# Altium integrated library Altera Cyclone II.IntLib: 204 symbols (part 38 of 40)
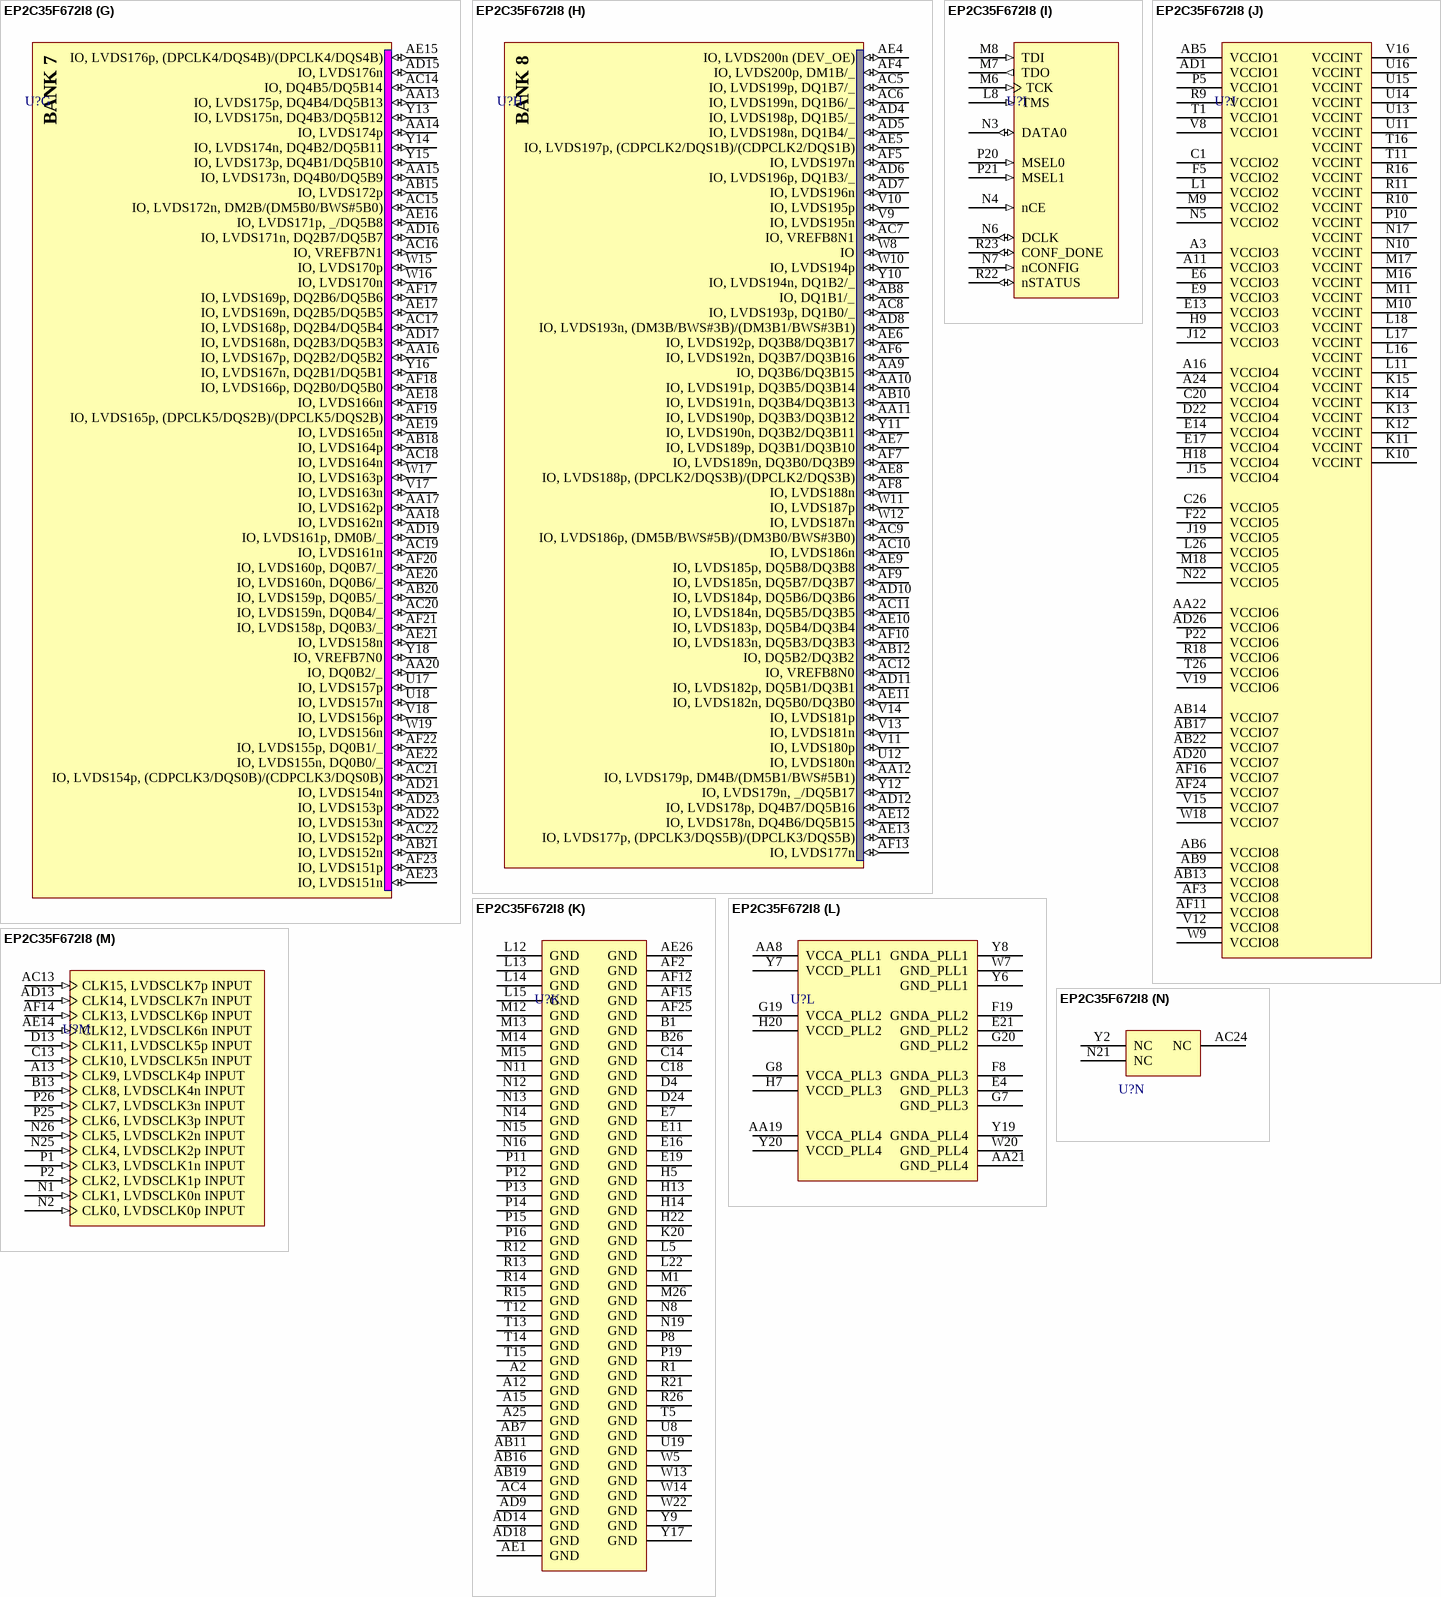
[diagram p360: symbol EP2C35F672I8]

## EP2C35F672I8
designator U?
Cyclone II Family, 1.2V FPGA, 475 I/O Pins, 4 PLLs, 672-Pin FBGA, Speed Grade 8, Industrial Grade; Note: DQS signal pins named according to DQ bus modes.  "/" separates each mode. ie. Modes x8/x9 / Modes x16/x18.; Published: 18-Aug-2005; LatestRevisionDate: 13-Apr-2006; LatestRevisionNote: IPC-7351 Footprint Added.; DatasheetVersion: ver2.3, Mar-2006; PackageVersion: ver14.2, Oct-2005; PackageReference: FBGA672; Publisher: Altium Limited; PackageDescription: 672-Ball FineLine Ball Grid Array (FBGA672) - Flip Chip; Code_JEDEC: MS-034-AAL-1; ComponentLink1Description: Manufacturer Link; ComponentLink1URL: http://www.altera.com/products/devices/cyclone2/cy2-index.jsp; ComponentLink2Description: Handbook; ComponentLink2URL: http://www.altera.com/literature/hb/cyc2/cyc2_cii5v1.pdf; ComponentLink3Description: Packaging Specification; ComponentLink3URL: http://www.altera.com/literature/ds/dspkg.pdf
footprint FBGA672 (BGA, 672-Leads, Body 27x27mm, Pitch 1mm)
3D model EP2C35-FBGA672 (672-Ball FineLine Ball Grid Array (FBGA672) - Flip Chip)
signal-integrity model EP2C35F_672 (Cyclone II)
part A pins: AA1 IO, LVDS9n, (DM3L/BWS#3L)/(DM3L1/BWS#3L1) (io), AA2 IO, LVDS9p, DQ3L8/DQ3L17 (io), AA3 IO, LVDS5n (io), AA4 IO, LVDS5p (io), AA5 IO, LVDS3p (io), AA6 IO, PLL1_OUTn (io), AA7 IO, PLL1_OUTp (io), AB1 IO, LVDS6n (io), AB2 IO, LVDS6p (io), AB3 IO, LVDS0p (io), AB4 IO, LVDS0n (io), AC1 IO, LVDS4n (io), AC2 IO, LVDS4p (io), AC3 IO (io), AD2 IO, LVDS2p (io), AD3 IO, LVDS2n (io), AE2 IO, LVDS1p (io), AE3 IO, LVDS1n (io), P3 IO, LVDS26p, (DPCLK1/DQS1L)/(DPCLK1/DQS1L) (io), P4 IO, LVDS26n (io), P6 IO, LVDS22n, DQ1L4/DQ3L4 (io), P7 IO, LVDS22p, DQ1L3/DQ3L3 (io), R2 IO, LVDS25p, DQ1L0/DQ3L0 (io), R3 IO, LVDS25n, DQ1L1/DQ3L1 (io), R4 IO, LVDS24p, DQ1L2/DQ3L2 (io), R5 IO, LVDS24n (io), R6 IO, LVDS20p, DQ1L7/DQ3L7 (io), R7 IO, LVDS20n, DQ1L8/DQ3L8 (io), R8 IO, LVDS7p (io), T2 IO, LVDS21p, DQ1L5/DQ3L5 (io), T3 IO, LVDS21n, DQ1L6/DQ3L6 (io), T4 IO, VREFB1N0 (io), T6 IO, LVDS15n (io), T7 IO, LVDS15p (io), T8 IO, LVDS7n (io), T9 IO, LVDS23n (io), T10 IO, LVDS23p (io), U1 IO, LVDS19n (io), U2 IO, LVDS19p, (DM1L/BWS#1L)/(DM3L0/BWS#3L0) (io), U3 IO, LVDS17p (io), U4 IO, LVDS17n (io), U5 IO, DQ3L4/DQ3L13 (io), U6 IO, LVDS12p, DQ3L2/DQ3L11 (io), U7 IO, LVDS12n, DQ3L3/DQ3L12 (io), U9 IO, LVDS18p (io), U10 IO, LVDS18n (io), V1 IO, LVDS16p (io), V2 IO, LVDS16n (io), V3 IO, LVDS14n (io), V4 IO, LVDS14p (io), V5 IO, LVDS10p, DQ3L6/DQ3L15 (io), V6 IO, LVDS10n, DQ3L7/DQ3L16 (io), V7 IO (io), W1 IO, LVDS13n, DQ3L1/DQ3L10 (io), W2 IO, LVDS13p, DQ3L0/DQ3L9 (io), W3 IO, LVDS11n (io), W4 IO, LVDS11p, (CDPCLK1/DQS3L)/(CDPCLK1/DQS3L) (io), W6 IO, VREFB1N1 (io), Y1 IO, DQ3L5/DQ3L14 (io), Y3 IO, LVDS8p (io), Y4 IO, LVDS8n (io), Y5 IO, LVDS3n (io)
part B pins: B2 IO, LVDS49p (CRC_ERROR) (io), B3 IO, LVDS49n (CLKUSR) (io), C2 IO, LVDS48p (io), C3 IO, LVDS48n (io), D1 IO, LVDS45n (io), D2 IO, LVDS45p (io), D3 IO, (nCSO) (io), E1 IO, LVDS43n (io), E2 IO, LVDS43p (io), E3 IO, (ASDO) (io), E5 IO, PLL3_OUTp (io), F1 IO, LVDS39n, DQ2L4/DQ1L4 (io), F2 IO, LVDS39p, DQ2L3/DQ1L3 (io), F3 IO, LVDS46p (io), F4 IO, LVDS46n (io), F6 IO, PLL3_OUTn (io), F7 IO (io), G1 IO, LVDS38p, (CDPCLK0/DQS2L)/(CDPCLK0/DQS2L) (io), G2 IO, LVDS38n (io), G3 IO, LVDS41n (io), G4 IO, LVDS41p (io), G5 IO, LVDS47p (io), G6 IO, LVDS47n (io), H1 IO, LVDS35n (io), H2 IO, LVDS35p, DM2L/(DM1L0/BWS#1L0) (io), H3 IO, LVDS37p, DQ2L5/DQ1L5 (io), H4 IO, LVDS37n, DQ2L6/DQ1L6 (io), H6 IO (io), J1 IO, LVDS34n, DQ0L0/DQ1L9 (io), J2 IO, LVDS34p (io), J3 IO, LVDS36p, DQ2L7/DQ1L7 (io), J4 IO, LVDS36n, _/DQ1L8 (io), J5 IO, VREFB2N0 (io), J6 IO, DQ2L0/DQ1L0 (io), J7 IO, LVDS44n (io), J8 IO, LVDS44p (io), K1 IO, LVDS32p, DQ0L3/DQ1L12 (io), K2 IO, LVDS32n, DQ0L4/DQ1L13 (io), K3 IO, LVDS33n, DQ0L2/DQ1L11 (io), K4 IO, LVDS33p, DQ0L1/DQ1L10 (io), K5 IO, LVDS42n (io), K6 IO, LVDS42p (io), K7 IO, LVDS40n, DQ2L2/DQ1L2 (io), K8 IO, LVDS40p, DQ2L1/DQ1L1 (io), L2 IO, LVDS29p, DQ0L7/DQ1L16 (io), L3 IO, LVDS29n, _/DQ1L17 (io), L4 IO, VREFB2N1 (io), L6 IO, LVDS30n, DQ0L6/DQ1L15 (io), L7 IO, LVDS30p, DQ0L5/DQ1L14 (io), L9 IO (io), L10 IO (io), M2 IO, LVDS27n (io), M3 IO, LVDS27p, (DPCLK0/DQS0L)/(DPCLK0/DQS0L) (io), M4 IO, LVDS28p (io), M5 IO, LVDS28n, DM0L/(DM1L1/BWS#1L1) (io), N9 IO, LVDS31p (io), P9 IO, LVDS31n (io)
part C pins: A4 IO, LVDS51p, DM1T/_ (io), A5 IO, LVDS52p, DQ1T6/_ (io), A6 IO, LVDS53n (io), A7 IO, LVDS58n, DQ3T7/DQ3T16 (io), A8 IO, LVDS62n (io), A9 IO, LVDS65n, DQ5T8/DQ3T8 (io), A10 IO, LVDS67n, DQ5T4/DQ3T4 (io), B4 IO, LVDS51n, DQ1T7/_ (io), B5 IO, LVDS52n, DQ1T5/_ (io), B6 IO, LVDS53p, (CDPCLK7/DQS1T)/(CDPCLK7/DQS1T) (io), B7 IO, LVDS58p, DQ3T8/DQ3T17 (io), B8 IO, LVDS62p, (DPCLK11/DQS3T)/(DPCLK11/DQS3T) (io), B9 IO, LVDS65p, (DM5T/BWS#5T)/(DM3T0/BWS#3T0) (io), B10 IO, LVDS67p, DQ5T5/DQ3T5 (io), B11 IO, LVDS72n, DQ4T7/DQ5T16 (io), B12 IO, LVDS73n (io), C4 IO, LVDS54p, DQ1T4/_ (io), C5 IO, LVDS50n (DEV_CLRn) (io), C6 IO, LVDS50p (io), C7 IO, LVDS57n, DQ1T0/_ (io), C8 IO, LVDS59n, DQ3T5/DQ3T14 (io), C9 IO, LVDS61n, DQ3T1/DQ3T10 (io), C10 IO, LVDS66p, DQ5T7/DQ3T7 (io), C11 IO, LVDS72p, _/DQ5T17 (io), C12 IO, LVDS73p, (DPCLK10/DQS5T)/(DPCLK10/DQS5T) (io), D5 IO, LVDS54n (io), D6 IO, (DM3T/BWS#3T)/(DM3T1/BWS#3T1) (io), D7 IO, LVDS57p, DQ1T1/_ (io), D8 IO, LVDS59p, DQ3T6/DQ3T15 (io), D9 IO, LVDS61p, DQ3T2/DQ3T11 (io), D10 IO, LVDS66n, DQ5T6/DQ3T6 (io), D11 IO, VREFB3N0 (io), D12 IO, LVDS68n, DQ5T1/DQ3T1 (io), E8 IO, VREFB3N1 (io), E10 IO, LVDS64n (io), E12 IO, LVDS68p, DQ5T2/DQ3T2 (io), F9 IO, DQ1T2/_ (io), F10 IO, LVDS60p, DQ3T4/DQ3T13 (io), F11 IO, LVDS64p, DQ3T0/DQ3T9 (io), F12 IO, LVDS70p, DQ5T0/DQ3T0 (io), G9 IO, LVDS56n, DQ1T3/_ (io), G10 IO, LVDS60n, DQ3T3/DQ3T12 (io), G11 IO, DQ5T3/DQ3T3 (io), G12 IO, LVDS70n, DM4T/(DM5T1/BWS#5T1) (io), H8 IO (io), H10 IO, LVDS56p (io), H11 IO, LVDS63p (io), H12 IO, LVDS63n (io), J9 IO, LVDS55n (io), J10 IO, LVDS71p (io), J11 IO, LVDS71n (io), J13 IO, LVDS69p (io), J14 IO, LVDS69n (io), K9 IO, LVDS55p (io)
part D pins: A14 IO, LVDS74n (io), A17 IO, LVDS81p, DQ2T6/DQ5T6 (io), A18 IO, LVDS84p, DQ2T0/DQ5T0 (io), A19 IO, LVDS90p, DQ0T7/_ (io), A20 IO, LVDS92p, DQ0T3/_ (io), A21 IO, LVDS95p, DQ0T1/_ (io), A22 IO, LVDS96n (io), A23 IO, LVDS97p (io), B14 IO, LVDS74p, (DPCLK9/DQS4T)/(DPCLK9/DQS4T) (io), B15 IO, LVDS77n, DQ4T1/DQ5T10 (io), B16 IO, LVDS78p, DQ4T0/DQ5T9 (io), B17 IO, LVDS81n, DQ2T5/DQ5T5 (io), B18 IO, LVDS84n (io), B19 IO, LVDS90n, DQ0T6/_ (io), B20 IO, LVDS92n (io), B21 IO, LVDS95n, DQ0T0/_ (io), B22 IO, LVDS96p, (CDPCLK6/DQS0T)/(CDPCLK6/DQS0T) (io), B23 IO, LVDS97n (io), C15 IO, LVDS77p, DQ4T2/DQ5T11 (io), C16 IO, LVDS78n, DM2T/(DM5T0/BWS#5T0) (io), C17 IO, LVDS85p, (DPCLK8/DQS2T)/(DPCLK8/DQS2T) (io), C19 IO, LVDS91n, DQ0T4/_ (io), C21 IO, LVDS98n (io), C22 IO, LVDS99p (io), C23 IO, LVDS99n (io), D14 IO, DQ4T6/DQ5T15 (io), D15 IO, LVDS79p, _/DQ5T8 (io), D16 IO, VREFB4N1 (io), D17 IO, LVDS85n (io), D18 IO, LVDS89p, DM0T/_ (io), D19 IO, LVDS91p, DQ0T5/_ (io), D20 IO, DQ0T2/_ (io), D21 IO, LVDS98p (io), E15 IO, LVDS79n, DQ2T7/DQ5T7 (io), E18 IO, LVDS89n (io), E20 IO, VREFB4N0 (io), F13 IO, LVDS76p (io), F14 IO, LVDS75p, DQ4T5/DQ5T14 (io), F15 IO, LVDS82n, DQ2T3/DQ5T3 (io), F16 IO, LVDS83p, DQ2T2/DQ5T2 (io), F17 IO, LVDS86n (io), F18 IO, LVDS88p (io), G13 IO, LVDS76n, DQ4T3/DQ5T12 (io), G14 IO, LVDS75n, DQ4T4/DQ5T13 (io), G15 IO, LVDS82p, DQ2T4/DQ5T4 (io), G16 IO, LVDS83n, DQ2T1/DQ5T1 (io), G17 IO, LVDS86p (io), G18 IO, LVDS88n (io), H15 IO, LVDS80p (io), H16 IO, LVDS80n (io), H17 IO, LVDS87p (io), J16 IO, LVDS93n (io), J17 IO, LVDS87n (io), J18 IO, LVDS94n (io), K16 IO, LVDS93p (io), K17 IO, LVDS94p (io)
part E pins: B24 IO, LVDS103p (io), B25 IO, LVDS103n (io), C24 IO, LVDS104n (io), C25 IO, LVDS104p (io), D23 IO, LVDS100n (io), D25 IO, LVDS105n (io), D26 IO, LVDS105p (io), E22 IO, LVDS100p (io), E23 IO, LVDS102p (io), E24 IO, LVDS102n (io), E25 IO, LVDS106n (io), E26 IO, LVDS106p (io), F20 IO, PLL2_OUTn (io), F21 IO, PLL2_OUTp (io), F23 IO, LVDS107n (io), F24 IO, LVDS107p (io), F25 IO, LVDS109p (io), F26 IO, LVDS109n (io), G21 IO, LVDS101p (io), G22 IO, LVDS101n (io), G23 IO, LVDS111p (io), G24 IO, LVDS111n (io), G25 IO, LVDS112p, (CDPCLK5/DQS2R)/(CDPCLK5/DQS2R) (io), G26 IO, LVDS112n (io), H19 IO (io), H21 IO (io), H23 IO, LVDS113p, DQ2R0/DQ1R0 (io), H24 IO, LVDS113n, DQ2R1/DQ1R1 (io), H25 IO, LVDS115p, DQ2R4/DQ1R4 (io), H26 IO, LVDS115n, DQ2R5/DQ1R5 (io), J20 IO, LVDS108n (io), J21 IO, LVDS108p (io), J22 IO, VREFB5N0 (io), J23 IO, LVDS114p, DQ2R2/DQ1R2 (io), J24 IO, LVDS114n, DQ2R3/DQ1R3 (io), J25 IO, LVDS119p (io), J26 IO, LVDS119n (io), K18 IO, LVDS116p (io), K19 IO, LVDS116n, DQ2R6/DQ1R6 (io), K21 IO, DQ2R7/DQ1R7 (io), K22 IO (io), K23 IO, LVDS117p, _/DQ1R8 (io), K24 IO, LVDS117n, DM2R/(DM1R0/BWS#1R0) (io), K25 IO, LVDS121p, DQ0R1/DQ1R10 (io), K26 IO, LVDS121n, DQ0R2/DQ1R11 (io), L19 IO, DQ0R0/DQ1R9 (io), L20 IO, LVDS118n (io), L21 IO, LVDS118p (io), L23 IO, VREFB5N1 (io), L24 IO, LVDS120p (io), L25 IO, LVDS120n (io), M19 IO, LVDS123p, DQ0R5/DQ1R14 (io), M20 IO, LVDS123n, DQ0R6/DQ1R15 (io), M21 IO, LVDS124n (io), M22 IO, LVDS122p, DQ0R3/DQ1R12 (io), M23 IO, LVDS122n, DQ0R4/DQ1R13 (io), M24 IO, LVDS125p, _/DQ1R17 (io), M25 IO, LVDS125n, DM0R/(DM1R1/BWS#1R1) (io), N18 IO, LVDS110p (io), N20 IO, LVDS124p, DQ0R7/DQ1R16 (io), N23 IO, LVDS126p, (DPCLK7/DQS0R)/(DPCLK7/DQS0R) (io), N24 IO, LVDS126n (io), P18 IO, LVDS110n (io)
part F pins: AA23 IO, LVDS147p (io), AA24 IO, LVDS147n (io), AA25 IO, LVDS142n (io), AA26 IO, LVDS142p (io), AB23 IO, LVDS146p (io), AB24 IO, LVDS146n (io), AB25 IO, LVDS144p (io), AB26 IO, LVDS144n (io), AC23 IO (io), AC25 IO, LVDS145n (io), AC26 IO, LVDS145p (io), AD24 IO, LVDS149p (io), AD25 IO, LVDS149n (io), AE24 IO, LVDS150p (nCEO) (io), AE25 IO, LVDS150n (INIT_DONE) (io), P17 IO, LVDS130n (io), P23 IO, LVDS127p, (DPCLK6/DQS1R)/(DPCLK6/DQS1R) (io), P24 IO, LVDS127n (io), R17 IO, LVDS130p (io), R19 IO, LVDS135p (io), R20 IO, DQ1R2/DQ3R2 (io), R24 IO, LVDS128n, DQ1R1/DQ3R1 (io), R25 IO, LVDS128p, DQ1R0/DQ3R0 (io), T17 IO, LVDS132n (io), T18 IO, LVDS132p (io), T19 IO, LVDS135n (io), T20 IO, DQ1R6/DQ3R6 (io), T21 IO, VREFB6N0 (io), T22 IO, LVDS129p, DQ1R3/DQ3R3 (io), T23 IO, LVDS129n (io), T24 IO, LVDS131p, DQ1R4/DQ3R4 (io), T25 IO, LVDS131n, DQ1R5/DQ3R5 (io), U20 IO, LVDS136p (io), U21 IO, LVDS136n, DQ3R0/DQ3R9 (io), U22 IO, DQ3R7/DQ3R16 (io), U23 IO, LVDS134p, (DM1R/BWS#1R)/(DM3R0/BWS#3R0) (io), U24 IO, LVDS134n (io), U25 IO, LVDS133n, DQ1R8/DQ3R8 (io), U26 IO, LVDS133p, DQ1R7/DQ3R7 (io), V20 IO, PLL4_OUTn (io), V21 IO, PLL4_OUTp (io), V22 IO, VREFB6N1 (io), V23 IO, LVDS138n, DQ3R4/DQ3R13 (io), V24 IO, LVDS138p, DQ3R3/DQ3R12 (io), V25 IO, LVDS137n, DQ3R2/DQ3R11 (io), V26 IO, LVDS137p, DQ3R1/DQ3R10 (io), W21 IO, LVDS148n (io), W23 IO, LVDS140p, DQ3R5/DQ3R14 (io), W24 IO, LVDS140n, DQ3R6/DQ3R15 (io), W25 IO, LVDS139n (io), W26 IO, LVDS139p, (CDPCLK4/DQS3R)/(CDPCLK4/DQS3R) (io), Y21 IO (io), Y22 IO, LVDS148p (io), Y23 IO, LVDS143p (io), Y24 IO, LVDS143n (io), Y25 IO, LVDS141p, DQ3R8/DQ3R17 (io), Y26 IO, LVDS141n, (DM3R/BWS#3R)/(DM3R1/BWS#3R1) (io)
part G pins: AA13 IO, LVDS175p, DQ4B4/DQ5B13 (io), AA14 IO, LVDS174p (io), AA15 IO, LVDS173n, DQ4B0/DQ5B9 (io), AA16 IO, LVDS167p, DQ2B2/DQ5B2 (io), AA17 IO, LVDS162p (io), AA18 IO, LVDS162n (io), AA20 IO, DQ0B2/_ (io), AB15 IO, LVDS172p (io), AB18 IO, LVDS164p (io), AB20 IO, LVDS159p, DQ0B5/_ (io), AB21 IO, LVDS152n (io), AC14 IO, DQ4B5/DQ5B14 (io), AC15 IO, LVDS172n, DM2B/(DM5B0/BWS#5B0) (io), AC16 IO, VREFB7N1 (io), AC17 IO, LVDS168p, DQ2B4/DQ5B4 (io), AC18 IO, LVDS164n (io), AC19 IO, LVDS161n (io), AC20 IO, LVDS159n, DQ0B4/_ (io), AC21 IO, LVDS154p, (CDPCLK3/DQS0B)/(CDPCLK3/DQS0B) (io), AC22 IO, LVDS152p (io), AD15 IO, LVDS176n (io), AD16 IO, LVDS171n, DQ2B7/DQ5B7 (io), AD17 IO, LVDS168n, DQ2B3/DQ5B3 (io), AD19 IO, LVDS161p, DM0B/_ (io), AD21 IO, LVDS154n (io), AD22 IO, LVDS153n (io), AD23 IO, LVDS153p (io), AE15 IO, LVDS176p, (DPCLK4/DQS4B)/(DPCLK4/DQS4B) (io), AE16 IO, LVDS171p, _/DQ5B8 (io), AE17 IO, LVDS169n, DQ2B5/DQ5B5 (io), AE18 IO, LVDS166n (io), AE19 IO, LVDS165n (io), AE20 IO, LVDS160n, DQ0B6/_ (io), AE21 IO, LVDS158n (io), AE22 IO, LVDS155n, DQ0B0/_ (io), AE23 IO, LVDS151n (io), AF17 IO, LVDS169p, DQ2B6/DQ5B6 (io), AF18 IO, LVDS166p, DQ2B0/DQ5B0 (io), AF19 IO, LVDS165p, (DPCLK5/DQS2B)/(DPCLK5/DQS2B) (io), AF20 IO, LVDS160p, DQ0B7/_ (io), AF21 IO, LVDS158p, DQ0B3/_ (io), AF22 IO, LVDS155p, DQ0B1/_ (io), AF23 IO, LVDS151p (io), U17 IO, LVDS157p (io), U18 IO, LVDS157n (io), V17 IO, LVDS163n (io), V18 IO, LVDS156p (io), W15 IO, LVDS170p (io), W16 IO, LVDS170n (io), W17 IO, LVDS163p (io), W19 IO, LVDS156n (io), Y13 IO, LVDS175n, DQ4B3/DQ5B12 (io), Y14 IO, LVDS174n, DQ4B2/DQ5B11 (io), Y15 IO, LVDS173p, DQ4B1/DQ5B10 (io), Y16 IO, LVDS167n, DQ2B1/DQ5B1 (io), Y18 IO, VREFB7N0 (io)
part H pins: AA9 IO, DQ3B6/DQ3B15 (io), AA10 IO, LVDS191p, DQ3B5/DQ3B14 (io), AA11 IO, LVDS190p, DQ3B3/DQ3B12 (io), AA12 IO, LVDS179p, DM4B/(DM5B1/BWS#5B1) (io), AB8 IO, DQ1B1/_ (io), AB10 IO, LVDS191n, DQ3B4/DQ3B13 (io), AB12 IO, DQ5B2/DQ3B2 (io), AC5 IO, LVDS199p, DQ1B7/_ (io), AC6 IO, LVDS199n, DQ1B6/_ (io), AC7 IO, VREFB8N1 (io), AC8 IO, LVDS193p, DQ1B0/_ (io), AC9 IO, LVDS186p, (DM5B/BWS#5B)/(DM3B0/BWS#3B0) (io), AC10 IO, LVDS186n (io), AC11 IO, LVDS184n, DQ5B5/DQ3B5 (io), AC12 IO, VREFB8N0 (io), AD4 IO, LVDS198p, DQ1B5/_ (io), AD5 IO, LVDS198n, DQ1B4/_ (io), AD6 IO, LVDS196p, DQ1B3/_ (io), AD7 IO, LVDS196n (io), AD8 IO, LVDS193n, (DM3B/BWS#3B)/(DM3B1/BWS#3B1) (io), AD10 IO, LVDS184p, DQ5B6/DQ3B6 (io), AD11 IO, LVDS182p, DQ5B1/DQ3B1 (io), AD12 IO, LVDS178p, DQ4B7/DQ5B16 (io), AE4 IO, LVDS200n (DEV_OE) (io), AE5 IO, LVDS197p, (CDPCLK2/DQS1B)/(CDPCLK2/DQS1B) (io), AE6 IO, LVDS192p, DQ3B8/DQ3B17 (io), AE7 IO, LVDS189p, DQ3B1/DQ3B10 (io), AE8 IO, LVDS188p, (DPCLK2/DQS3B)/(DPCLK2/DQS3B) (io), AE9 IO, LVDS185p, DQ5B8/DQ3B8 (io), AE10 IO, LVDS183p, DQ5B4/DQ3B4 (io), AE11 IO, LVDS182n, DQ5B0/DQ3B0 (io), AE12 IO, LVDS178n, DQ4B6/DQ5B15 (io), AE13 IO, LVDS177p, (DPCLK3/DQS5B)/(DPCLK3/DQS5B) (io), AF4 IO, LVDS200p, DM1B/_ (io), AF5 IO, LVDS197n (io), AF6 IO, LVDS192n, DQ3B7/DQ3B16 (io), AF7 IO, LVDS189n, DQ3B0/DQ3B9 (io), AF8 IO, LVDS188n (io), AF9 IO, LVDS185n, DQ5B7/DQ3B7 (io), AF10 IO, LVDS183n, DQ5B3/DQ3B3 (io), AF13 IO, LVDS177n (io), U12 IO, LVDS180n (io), V9 IO, LVDS195n (io), V10 IO, LVDS195p (io), V11 IO, LVDS180p (io), V13 IO, LVDS181n (io), V14 IO, LVDS181p (io), W8 IO (io), W10 IO, LVDS194p (io), W11 IO, LVDS187p (io), W12 IO, LVDS187n (io), Y10 IO, LVDS194n, DQ1B2/_ (io), Y11 IO, LVDS190n, DQ3B2/DQ3B11 (io), Y12 IO, LVDS179n, _/DQ5B17 (io)
part I pins: L8 TMS (in), M6 TCK (in), M7 TDO (out), M8 TDI (in), N3 DATA0 (io), N4 nCE (in), N6 DCLK (io), N7 nCONFIG (in), P20 MSEL0 (in), P21 MSEL1 (in), R22 nSTATUS (io), R23 CONF_DONE (io)
part J pins: A3 VCCIO3 (power), A11 VCCIO3 (power), A16 VCCIO4 (power), A24 VCCIO4 (power), AA22 VCCIO6 (power), AB5 VCCIO1 (power), AB6 VCCIO8 (power), AB9 VCCIO8 (power), AB13 VCCIO8 (power), AB14 VCCIO7 (power), AB17 VCCIO7 (power), AB22 VCCIO7 (power), AD1 VCCIO1 (power), AD20 VCCIO7 (power), AD26 VCCIO6 (power), AF3 VCCIO8 (power), AF11 VCCIO8 (power), AF16 VCCIO7 (power), AF24 VCCIO7 (power), C1 VCCIO2 (power), C20 VCCIO4 (power), C26 VCCIO5 (power), D22 VCCIO4 (power), E6 VCCIO3 (power), E9 VCCIO3 (power), E13 VCCIO3 (power), E14 VCCIO4 (power), E17 VCCIO4 (power), F5 VCCIO2 (power), F22 VCCIO5 (power), H9 VCCIO3 (power), H18 VCCIO4 (power), J12 VCCIO3 (power), J15 VCCIO4 (power), J19 VCCIO5 (power), K10 VCCINT (power), K11 VCCINT (power), K12 VCCINT (power), K13 VCCINT (power), K14 VCCINT (power), K15 VCCINT (power), L1 VCCIO2 (power), L11 VCCINT (power), L16 VCCINT (power), L17 VCCINT (power), L18 VCCINT (power), L26 VCCIO5 (power), M9 VCCIO2 (power), M10 VCCINT (power), M11 VCCINT (power), M16 VCCINT (power), M17 VCCINT (power), M18 VCCIO5 (power), N5 VCCIO2 (power), N10 VCCINT (power), N17 VCCINT (power), N22 VCCIO5 (power), P5 VCCIO1 (power), P10 VCCINT (power), P22 VCCIO6 (power), R9 VCCIO1 (power), R10 VCCINT (power), R11 VCCINT (power), R16 VCCINT (power), R18 VCCIO6 (power), T1 VCCIO1 (power), T11 VCCINT (power), T16 VCCINT (power), T26 VCCIO6 (power), U11 VCCINT (power), U13 VCCINT (power), U14 VCCINT (power), U15 VCCINT (power), U16 VCCINT (power), V8 VCCIO1 (power), V12 VCCIO8 (power), V15 VCCIO7 (power), V16 VCCINT (power), V19 VCCIO6 (power), W9 VCCIO8 (power), W18 VCCIO7 (power)
part K pins: A2 GND (power), A12 GND (power), A15 GND (power), A25 GND (power), AB7 GND (power), AB11 GND (power), AB16 GND (power), AB19 GND (power), AC4 GND (power), AD9 GND (power), AD14 GND (power), AD18 GND (power), AE1 GND (power), AE26 GND (power), AF2 GND (power), AF12 GND (power), AF15 GND (power), AF25 GND (power), B1 GND (power), B26 GND (power), C14 GND (power), C18 GND (power), D4 GND (power), D24 GND (power), E7 GND (power), E11 GND (power), E16 GND (power), E19 GND (power), H5 GND (power), H13 GND (power), H14 GND (power), H22 GND (power), K20 GND (power), L5 GND (power), L12 GND (power), L13 GND (power), L14 GND (power), L15 GND (power), L22 GND (power), M1 GND (power), M12 GND (power), M13 GND (power), M14 GND (power), M15 GND (power), M26 GND (power), N8 GND (power), N11 GND (power), N12 GND (power), N13 GND (power), N14 GND (power), N15 GND (power), N16 GND (power), N19 GND (power), P8 GND (power), P11 GND (power), P12 GND (power), P13 GND (power), P14 GND (power), P15 GND (power), P16 GND (power), P19 GND (power), R1 GND (power), R12 GND (power), R13 GND (power), R14 GND (power), R15 GND (power), R21 GND (power), R26 GND (power), T5 GND (power), T12 GND (power), T13 GND (power), T14 GND (power), T15 GND (power), U8 GND (power), U19 GND (power), W5 GND (power), W13 GND (power), W14 GND (power), W22 GND (power), Y9 GND (power), Y17 GND (power)
part L pins: AA8 VCCA_PLL1 (power), AA19 VCCA_PLL4 (power), AA21 GND_PLL4 (power), E4 GND_PLL3 (power), E21 GND_PLL2 (power), F8 GNDA_PLL3 (power), F19 GNDA_PLL2 (power), G7 GND_PLL3 (power), G8 VCCA_PLL3 (power), G19 VCCA_PLL2 (power), G20 GND_PLL2 (power), H7 VCCD_PLL3 (power), H20 VCCD_PLL2 (power), W7 GND_PLL1 (power), W20 GND_PLL4 (power), Y6 GND_PLL1 (power), Y7 VCCD_PLL1 (power), Y8 GNDA_PLL1 (power), Y19 GNDA_PLL4 (power), Y20 VCCD_PLL4 (power)
part M pins: A13 CLK9, LVDSCLK4p INPUT (in), AC13 CLK15, LVDSCLK7p INPUT (in), AD13 CLK14, LVDSCLK7n INPUT (in), AE14 CLK12, LVDSCLK6n INPUT (in), AF14 CLK13, LVDSCLK6p INPUT (in), B13 CLK8, LVDSCLK4n INPUT (in), C13 CLK10, LVDSCLK5n INPUT (in), D13 CLK11, LVDSCLK5p INPUT (in), N1 CLK1, LVDSCLK0n INPUT (in), N2 CLK0, LVDSCLK0p INPUT (in), N25 CLK4, LVDSCLK2p INPUT (in), N26 CLK5, LVDSCLK2n INPUT (in), P1 CLK3, LVDSCLK1n INPUT (in), P2 CLK2, LVDSCLK1p INPUT (in), P25 CLK6, LVDSCLK3p INPUT (in), P26 CLK7, LVDSCLK3n INPUT (in)
part N pins: AC24 NC, N21 NC, Y2 NC
part A text: BANK 1
part B text: BANK 2
part C text: BANK 3
part D text: BANK 4
part E text: BANK 5
part F text: BANK 6
part G text: BANK 7
part H text: BANK 8

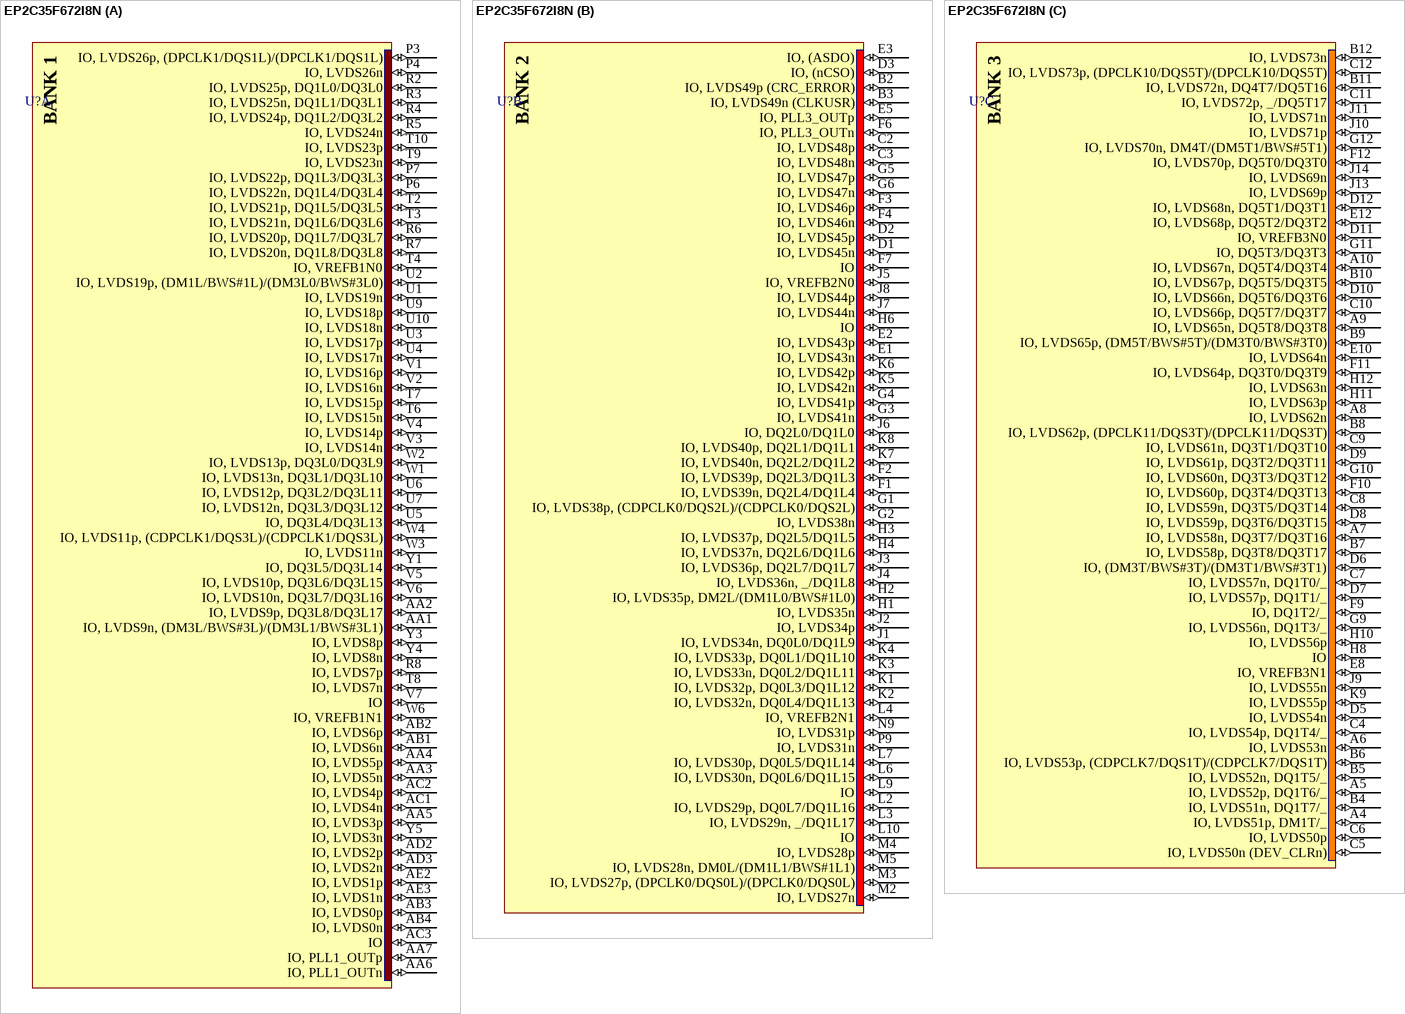
[diagram p156: symbol EP2C35F672I8N]

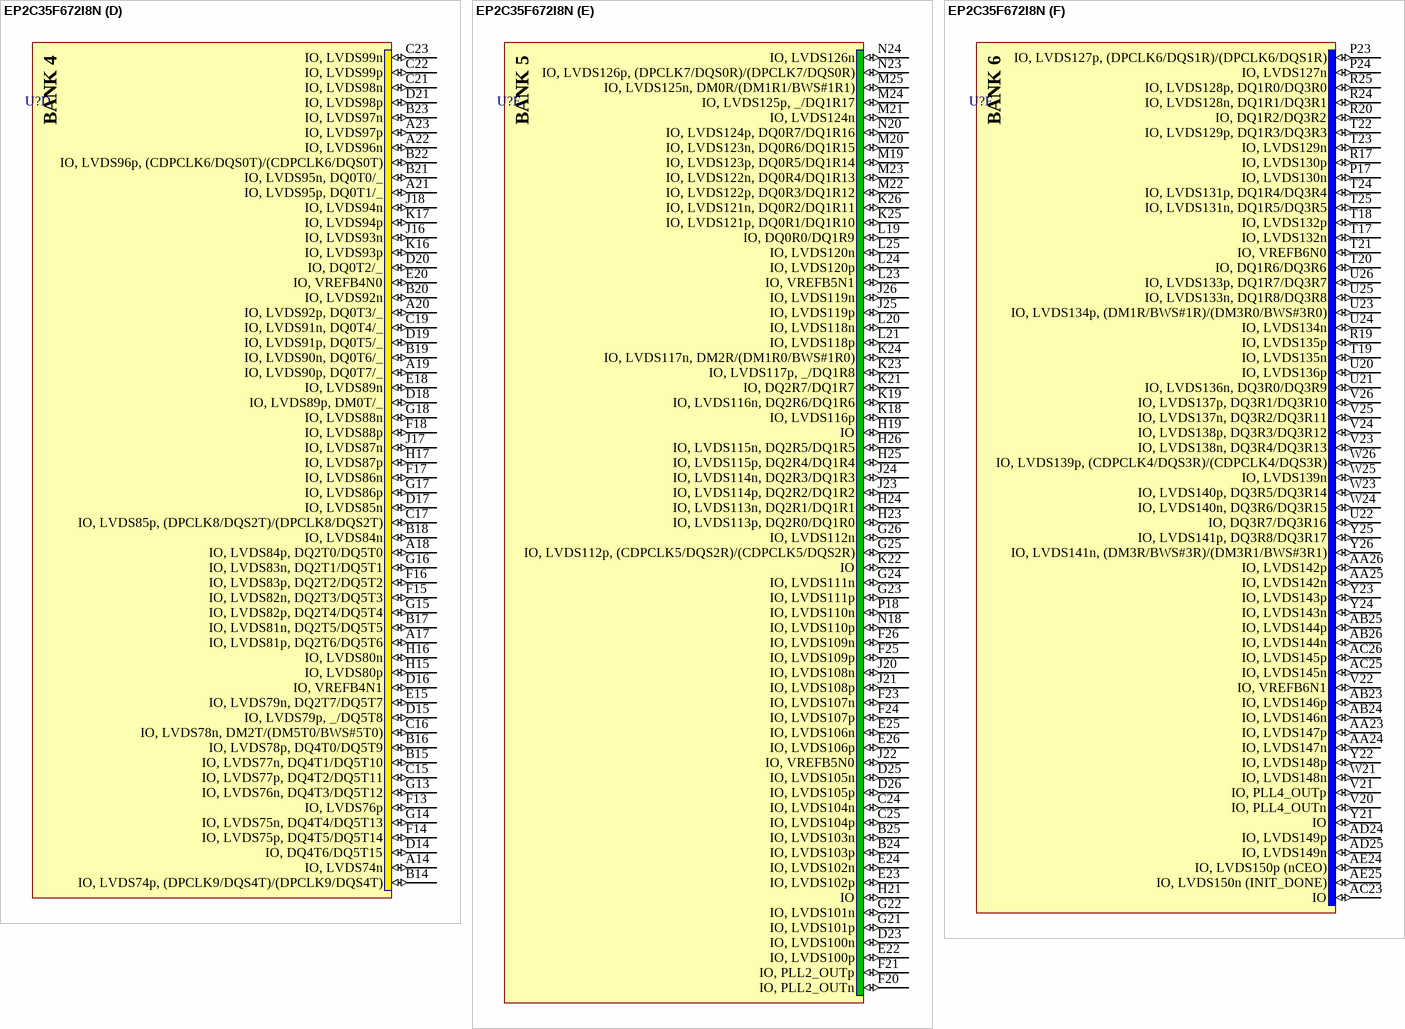
[diagram p157: symbol EP2C35F672I8N]

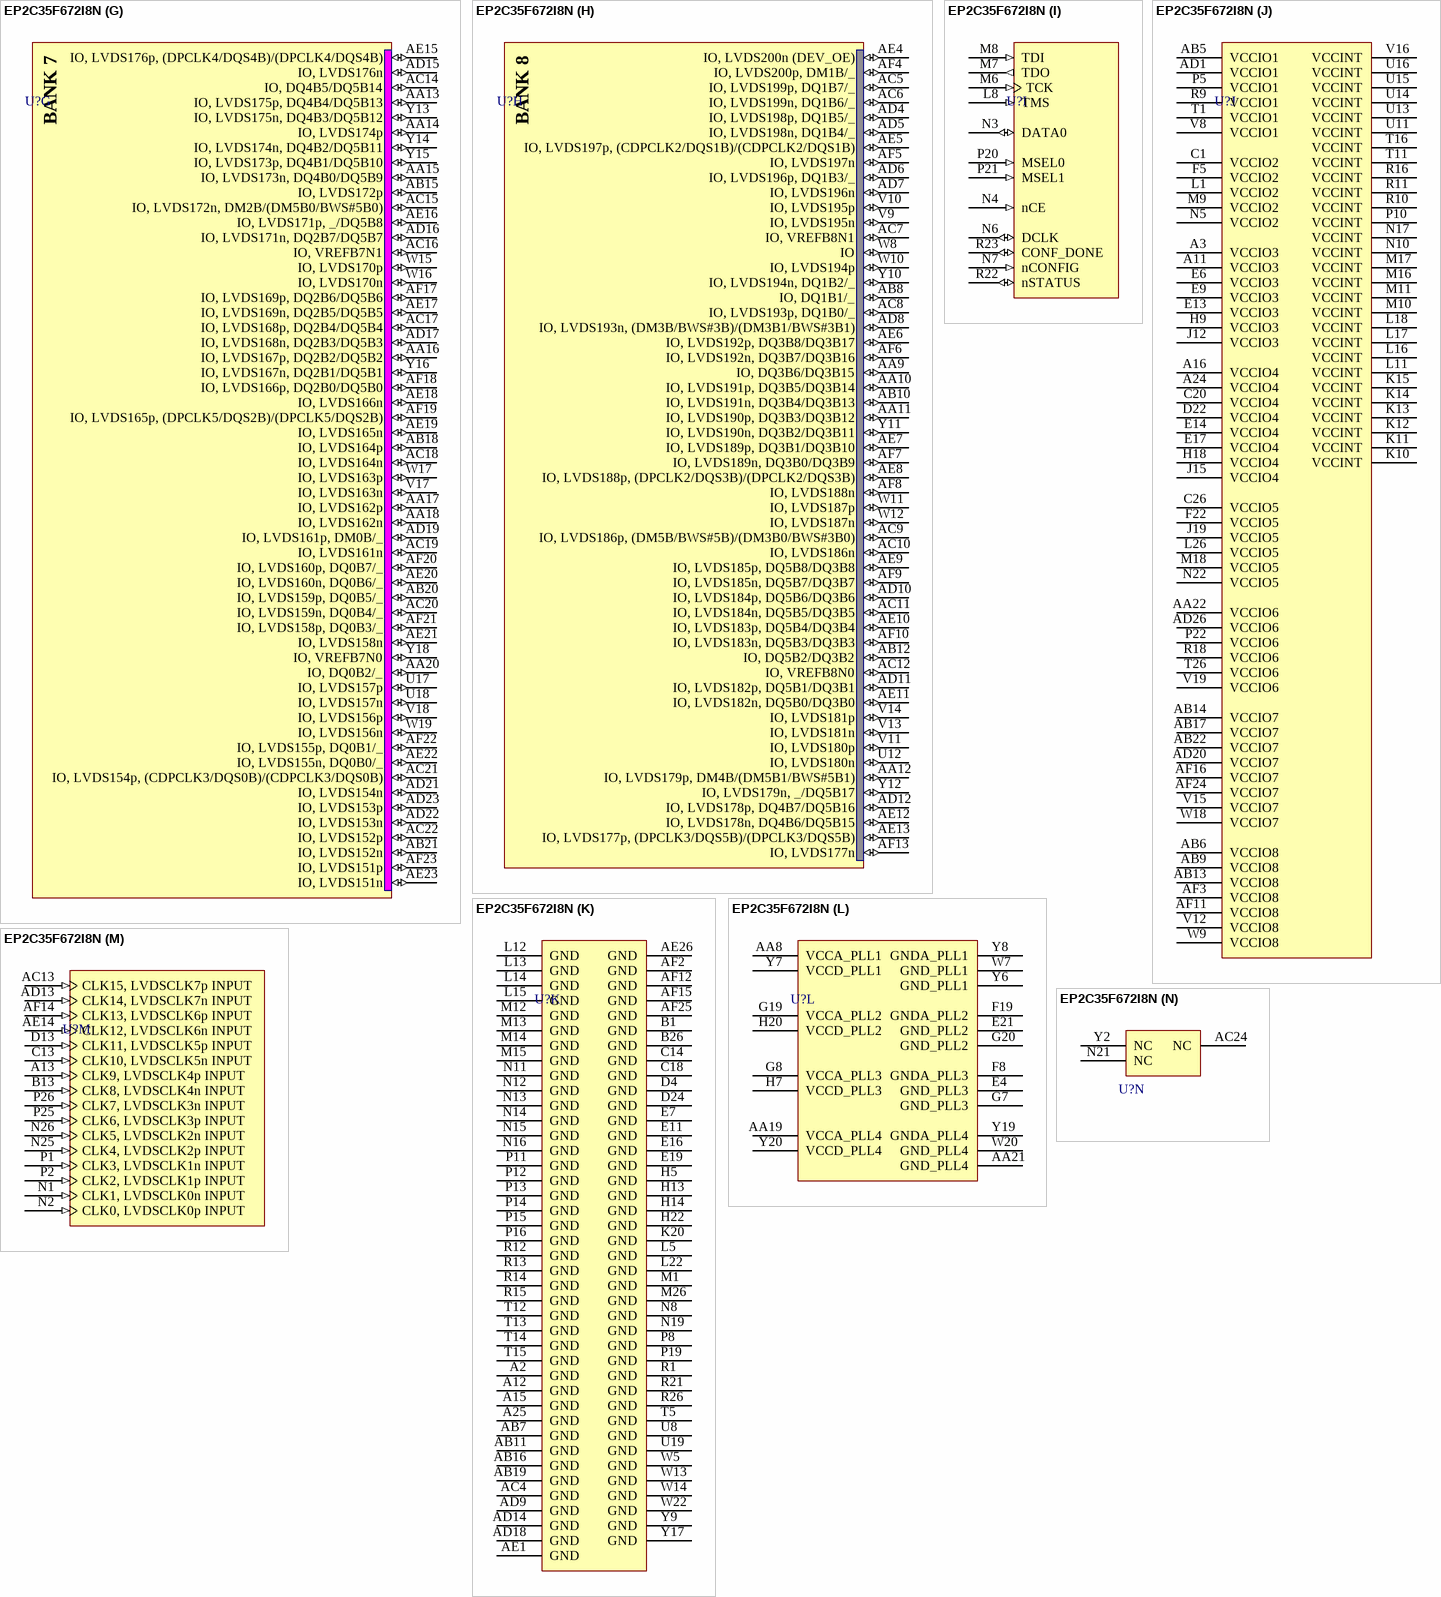
[diagram p158: symbol EP2C35F672I8N]

## EP2C35F672I8N
designator U?
Cyclone II Family, 1.2V FPGA, 475 I/O Pins, 4 PLLs, 672-Pin FBGA, Speed Grade 8, Industrial Grade, Pb-Free; Note: DQS signal pins named according to DQ bus modes.  "/" separates each mode. ie. Modes x8/x9 / Modes x16/x18.; Published: 18-Aug-2005; LatestRevisionDate: 13-Apr-2006; LatestRevisionNote: IPC-7351 Footprint Added.; DatasheetVersion: ver2.3, Mar-2006; PackageVersion: ver14.2, Oct-2005; PackageReference: FBGA672; Publisher: Altium Limited; PackageDescription: 672-Ball FineLine Ball Grid Array (FBGA672) - Flip Chip; Code_JEDEC: MS-034-AAL-1; ComponentLink1Description: Manufacturer Link; ComponentLink1URL: http://www.altera.com/products/devices/cyclone2/cy2-index.jsp; ComponentLink2Description: Handbook; ComponentLink2URL: http://www.altera.com/literature/hb/cyc2/cyc2_cii5v1.pdf; ComponentLink3Description: Packaging Specification; ComponentLink3URL: http://www.altera.com/literature/ds/dspkg.pdf
footprint FBGA672 (BGA, 672-Leads, Body 27x27mm, Pitch 1mm)
3D model EP2C35-FBGA672 (672-Ball FineLine Ball Grid Array (FBGA672) - Flip Chip)
signal-integrity model EP2C35F_672 (Cyclone II)
part A pins: AA1 IO, LVDS9n, (DM3L/BWS#3L)/(DM3L1/BWS#3L1) (io), AA2 IO, LVDS9p, DQ3L8/DQ3L17 (io), AA3 IO, LVDS5n (io), AA4 IO, LVDS5p (io), AA5 IO, LVDS3p (io), AA6 IO, PLL1_OUTn (io), AA7 IO, PLL1_OUTp (io), AB1 IO, LVDS6n (io), AB2 IO, LVDS6p (io), AB3 IO, LVDS0p (io), AB4 IO, LVDS0n (io), AC1 IO, LVDS4n (io), AC2 IO, LVDS4p (io), AC3 IO (io), AD2 IO, LVDS2p (io), AD3 IO, LVDS2n (io), AE2 IO, LVDS1p (io), AE3 IO, LVDS1n (io), P3 IO, LVDS26p, (DPCLK1/DQS1L)/(DPCLK1/DQS1L) (io), P4 IO, LVDS26n (io), P6 IO, LVDS22n, DQ1L4/DQ3L4 (io), P7 IO, LVDS22p, DQ1L3/DQ3L3 (io), R2 IO, LVDS25p, DQ1L0/DQ3L0 (io), R3 IO, LVDS25n, DQ1L1/DQ3L1 (io), R4 IO, LVDS24p, DQ1L2/DQ3L2 (io), R5 IO, LVDS24n (io), R6 IO, LVDS20p, DQ1L7/DQ3L7 (io), R7 IO, LVDS20n, DQ1L8/DQ3L8 (io), R8 IO, LVDS7p (io), T2 IO, LVDS21p, DQ1L5/DQ3L5 (io), T3 IO, LVDS21n, DQ1L6/DQ3L6 (io), T4 IO, VREFB1N0 (io), T6 IO, LVDS15n (io), T7 IO, LVDS15p (io), T8 IO, LVDS7n (io), T9 IO, LVDS23n (io), T10 IO, LVDS23p (io), U1 IO, LVDS19n (io), U2 IO, LVDS19p, (DM1L/BWS#1L)/(DM3L0/BWS#3L0) (io), U3 IO, LVDS17p (io), U4 IO, LVDS17n (io), U5 IO, DQ3L4/DQ3L13 (io), U6 IO, LVDS12p, DQ3L2/DQ3L11 (io), U7 IO, LVDS12n, DQ3L3/DQ3L12 (io), U9 IO, LVDS18p (io), U10 IO, LVDS18n (io), V1 IO, LVDS16p (io), V2 IO, LVDS16n (io), V3 IO, LVDS14n (io), V4 IO, LVDS14p (io), V5 IO, LVDS10p, DQ3L6/DQ3L15 (io), V6 IO, LVDS10n, DQ3L7/DQ3L16 (io), V7 IO (io), W1 IO, LVDS13n, DQ3L1/DQ3L10 (io), W2 IO, LVDS13p, DQ3L0/DQ3L9 (io), W3 IO, LVDS11n (io), W4 IO, LVDS11p, (CDPCLK1/DQS3L)/(CDPCLK1/DQS3L) (io), W6 IO, VREFB1N1 (io), Y1 IO, DQ3L5/DQ3L14 (io), Y3 IO, LVDS8p (io), Y4 IO, LVDS8n (io), Y5 IO, LVDS3n (io)
part B pins: B2 IO, LVDS49p (CRC_ERROR) (io), B3 IO, LVDS49n (CLKUSR) (io), C2 IO, LVDS48p (io), C3 IO, LVDS48n (io), D1 IO, LVDS45n (io), D2 IO, LVDS45p (io), D3 IO, (nCSO) (io), E1 IO, LVDS43n (io), E2 IO, LVDS43p (io), E3 IO, (ASDO) (io), E5 IO, PLL3_OUTp (io), F1 IO, LVDS39n, DQ2L4/DQ1L4 (io), F2 IO, LVDS39p, DQ2L3/DQ1L3 (io), F3 IO, LVDS46p (io), F4 IO, LVDS46n (io), F6 IO, PLL3_OUTn (io), F7 IO (io), G1 IO, LVDS38p, (CDPCLK0/DQS2L)/(CDPCLK0/DQS2L) (io), G2 IO, LVDS38n (io), G3 IO, LVDS41n (io), G4 IO, LVDS41p (io), G5 IO, LVDS47p (io), G6 IO, LVDS47n (io), H1 IO, LVDS35n (io), H2 IO, LVDS35p, DM2L/(DM1L0/BWS#1L0) (io), H3 IO, LVDS37p, DQ2L5/DQ1L5 (io), H4 IO, LVDS37n, DQ2L6/DQ1L6 (io), H6 IO (io), J1 IO, LVDS34n, DQ0L0/DQ1L9 (io), J2 IO, LVDS34p (io), J3 IO, LVDS36p, DQ2L7/DQ1L7 (io), J4 IO, LVDS36n, _/DQ1L8 (io), J5 IO, VREFB2N0 (io), J6 IO, DQ2L0/DQ1L0 (io), J7 IO, LVDS44n (io), J8 IO, LVDS44p (io), K1 IO, LVDS32p, DQ0L3/DQ1L12 (io), K2 IO, LVDS32n, DQ0L4/DQ1L13 (io), K3 IO, LVDS33n, DQ0L2/DQ1L11 (io), K4 IO, LVDS33p, DQ0L1/DQ1L10 (io), K5 IO, LVDS42n (io), K6 IO, LVDS42p (io), K7 IO, LVDS40n, DQ2L2/DQ1L2 (io), K8 IO, LVDS40p, DQ2L1/DQ1L1 (io), L2 IO, LVDS29p, DQ0L7/DQ1L16 (io), L3 IO, LVDS29n, _/DQ1L17 (io), L4 IO, VREFB2N1 (io), L6 IO, LVDS30n, DQ0L6/DQ1L15 (io), L7 IO, LVDS30p, DQ0L5/DQ1L14 (io), L9 IO (io), L10 IO (io), M2 IO, LVDS27n (io), M3 IO, LVDS27p, (DPCLK0/DQS0L)/(DPCLK0/DQS0L) (io), M4 IO, LVDS28p (io), M5 IO, LVDS28n, DM0L/(DM1L1/BWS#1L1) (io), N9 IO, LVDS31p (io), P9 IO, LVDS31n (io)
part C pins: A4 IO, LVDS51p, DM1T/_ (io), A5 IO, LVDS52p, DQ1T6/_ (io), A6 IO, LVDS53n (io), A7 IO, LVDS58n, DQ3T7/DQ3T16 (io), A8 IO, LVDS62n (io), A9 IO, LVDS65n, DQ5T8/DQ3T8 (io), A10 IO, LVDS67n, DQ5T4/DQ3T4 (io), B4 IO, LVDS51n, DQ1T7/_ (io), B5 IO, LVDS52n, DQ1T5/_ (io), B6 IO, LVDS53p, (CDPCLK7/DQS1T)/(CDPCLK7/DQS1T) (io), B7 IO, LVDS58p, DQ3T8/DQ3T17 (io), B8 IO, LVDS62p, (DPCLK11/DQS3T)/(DPCLK11/DQS3T) (io), B9 IO, LVDS65p, (DM5T/BWS#5T)/(DM3T0/BWS#3T0) (io), B10 IO, LVDS67p, DQ5T5/DQ3T5 (io), B11 IO, LVDS72n, DQ4T7/DQ5T16 (io), B12 IO, LVDS73n (io), C4 IO, LVDS54p, DQ1T4/_ (io), C5 IO, LVDS50n (DEV_CLRn) (io), C6 IO, LVDS50p (io), C7 IO, LVDS57n, DQ1T0/_ (io), C8 IO, LVDS59n, DQ3T5/DQ3T14 (io), C9 IO, LVDS61n, DQ3T1/DQ3T10 (io), C10 IO, LVDS66p, DQ5T7/DQ3T7 (io), C11 IO, LVDS72p, _/DQ5T17 (io), C12 IO, LVDS73p, (DPCLK10/DQS5T)/(DPCLK10/DQS5T) (io), D5 IO, LVDS54n (io), D6 IO, (DM3T/BWS#3T)/(DM3T1/BWS#3T1) (io), D7 IO, LVDS57p, DQ1T1/_ (io), D8 IO, LVDS59p, DQ3T6/DQ3T15 (io), D9 IO, LVDS61p, DQ3T2/DQ3T11 (io), D10 IO, LVDS66n, DQ5T6/DQ3T6 (io), D11 IO, VREFB3N0 (io), D12 IO, LVDS68n, DQ5T1/DQ3T1 (io), E8 IO, VREFB3N1 (io), E10 IO, LVDS64n (io), E12 IO, LVDS68p, DQ5T2/DQ3T2 (io), F9 IO, DQ1T2/_ (io), F10 IO, LVDS60p, DQ3T4/DQ3T13 (io), F11 IO, LVDS64p, DQ3T0/DQ3T9 (io), F12 IO, LVDS70p, DQ5T0/DQ3T0 (io), G9 IO, LVDS56n, DQ1T3/_ (io), G10 IO, LVDS60n, DQ3T3/DQ3T12 (io), G11 IO, DQ5T3/DQ3T3 (io), G12 IO, LVDS70n, DM4T/(DM5T1/BWS#5T1) (io), H8 IO (io), H10 IO, LVDS56p (io), H11 IO, LVDS63p (io), H12 IO, LVDS63n (io), J9 IO, LVDS55n (io), J10 IO, LVDS71p (io), J11 IO, LVDS71n (io), J13 IO, LVDS69p (io), J14 IO, LVDS69n (io), K9 IO, LVDS55p (io)
part D pins: A14 IO, LVDS74n (io), A17 IO, LVDS81p, DQ2T6/DQ5T6 (io), A18 IO, LVDS84p, DQ2T0/DQ5T0 (io), A19 IO, LVDS90p, DQ0T7/_ (io), A20 IO, LVDS92p, DQ0T3/_ (io), A21 IO, LVDS95p, DQ0T1/_ (io), A22 IO, LVDS96n (io), A23 IO, LVDS97p (io), B14 IO, LVDS74p, (DPCLK9/DQS4T)/(DPCLK9/DQS4T) (io), B15 IO, LVDS77n, DQ4T1/DQ5T10 (io), B16 IO, LVDS78p, DQ4T0/DQ5T9 (io), B17 IO, LVDS81n, DQ2T5/DQ5T5 (io), B18 IO, LVDS84n (io), B19 IO, LVDS90n, DQ0T6/_ (io), B20 IO, LVDS92n (io), B21 IO, LVDS95n, DQ0T0/_ (io), B22 IO, LVDS96p, (CDPCLK6/DQS0T)/(CDPCLK6/DQS0T) (io), B23 IO, LVDS97n (io), C15 IO, LVDS77p, DQ4T2/DQ5T11 (io), C16 IO, LVDS78n, DM2T/(DM5T0/BWS#5T0) (io), C17 IO, LVDS85p, (DPCLK8/DQS2T)/(DPCLK8/DQS2T) (io), C19 IO, LVDS91n, DQ0T4/_ (io), C21 IO, LVDS98n (io), C22 IO, LVDS99p (io), C23 IO, LVDS99n (io), D14 IO, DQ4T6/DQ5T15 (io), D15 IO, LVDS79p, _/DQ5T8 (io), D16 IO, VREFB4N1 (io), D17 IO, LVDS85n (io), D18 IO, LVDS89p, DM0T/_ (io), D19 IO, LVDS91p, DQ0T5/_ (io), D20 IO, DQ0T2/_ (io), D21 IO, LVDS98p (io), E15 IO, LVDS79n, DQ2T7/DQ5T7 (io), E18 IO, LVDS89n (io), E20 IO, VREFB4N0 (io), F13 IO, LVDS76p (io), F14 IO, LVDS75p, DQ4T5/DQ5T14 (io), F15 IO, LVDS82n, DQ2T3/DQ5T3 (io), F16 IO, LVDS83p, DQ2T2/DQ5T2 (io), F17 IO, LVDS86n (io), F18 IO, LVDS88p (io), G13 IO, LVDS76n, DQ4T3/DQ5T12 (io), G14 IO, LVDS75n, DQ4T4/DQ5T13 (io), G15 IO, LVDS82p, DQ2T4/DQ5T4 (io), G16 IO, LVDS83n, DQ2T1/DQ5T1 (io), G17 IO, LVDS86p (io), G18 IO, LVDS88n (io), H15 IO, LVDS80p (io), H16 IO, LVDS80n (io), H17 IO, LVDS87p (io), J16 IO, LVDS93n (io), J17 IO, LVDS87n (io), J18 IO, LVDS94n (io), K16 IO, LVDS93p (io), K17 IO, LVDS94p (io)
part E pins: B24 IO, LVDS103p (io), B25 IO, LVDS103n (io), C24 IO, LVDS104n (io), C25 IO, LVDS104p (io), D23 IO, LVDS100n (io), D25 IO, LVDS105n (io), D26 IO, LVDS105p (io), E22 IO, LVDS100p (io), E23 IO, LVDS102p (io), E24 IO, LVDS102n (io), E25 IO, LVDS106n (io), E26 IO, LVDS106p (io), F20 IO, PLL2_OUTn (io), F21 IO, PLL2_OUTp (io), F23 IO, LVDS107n (io), F24 IO, LVDS107p (io), F25 IO, LVDS109p (io), F26 IO, LVDS109n (io), G21 IO, LVDS101p (io), G22 IO, LVDS101n (io), G23 IO, LVDS111p (io), G24 IO, LVDS111n (io), G25 IO, LVDS112p, (CDPCLK5/DQS2R)/(CDPCLK5/DQS2R) (io), G26 IO, LVDS112n (io), H19 IO (io), H21 IO (io), H23 IO, LVDS113p, DQ2R0/DQ1R0 (io), H24 IO, LVDS113n, DQ2R1/DQ1R1 (io), H25 IO, LVDS115p, DQ2R4/DQ1R4 (io), H26 IO, LVDS115n, DQ2R5/DQ1R5 (io), J20 IO, LVDS108n (io), J21 IO, LVDS108p (io), J22 IO, VREFB5N0 (io), J23 IO, LVDS114p, DQ2R2/DQ1R2 (io), J24 IO, LVDS114n, DQ2R3/DQ1R3 (io), J25 IO, LVDS119p (io), J26 IO, LVDS119n (io), K18 IO, LVDS116p (io), K19 IO, LVDS116n, DQ2R6/DQ1R6 (io), K21 IO, DQ2R7/DQ1R7 (io), K22 IO (io), K23 IO, LVDS117p, _/DQ1R8 (io), K24 IO, LVDS117n, DM2R/(DM1R0/BWS#1R0) (io), K25 IO, LVDS121p, DQ0R1/DQ1R10 (io), K26 IO, LVDS121n, DQ0R2/DQ1R11 (io), L19 IO, DQ0R0/DQ1R9 (io), L20 IO, LVDS118n (io), L21 IO, LVDS118p (io), L23 IO, VREFB5N1 (io), L24 IO, LVDS120p (io), L25 IO, LVDS120n (io), M19 IO, LVDS123p, DQ0R5/DQ1R14 (io), M20 IO, LVDS123n, DQ0R6/DQ1R15 (io), M21 IO, LVDS124n (io), M22 IO, LVDS122p, DQ0R3/DQ1R12 (io), M23 IO, LVDS122n, DQ0R4/DQ1R13 (io), M24 IO, LVDS125p, _/DQ1R17 (io), M25 IO, LVDS125n, DM0R/(DM1R1/BWS#1R1) (io), N18 IO, LVDS110p (io), N20 IO, LVDS124p, DQ0R7/DQ1R16 (io), N23 IO, LVDS126p, (DPCLK7/DQS0R)/(DPCLK7/DQS0R) (io), N24 IO, LVDS126n (io), P18 IO, LVDS110n (io)
part F pins: AA23 IO, LVDS147p (io), AA24 IO, LVDS147n (io), AA25 IO, LVDS142n (io), AA26 IO, LVDS142p (io), AB23 IO, LVDS146p (io), AB24 IO, LVDS146n (io), AB25 IO, LVDS144p (io), AB26 IO, LVDS144n (io), AC23 IO (io), AC25 IO, LVDS145n (io), AC26 IO, LVDS145p (io), AD24 IO, LVDS149p (io), AD25 IO, LVDS149n (io), AE24 IO, LVDS150p (nCEO) (io), AE25 IO, LVDS150n (INIT_DONE) (io), P17 IO, LVDS130n (io), P23 IO, LVDS127p, (DPCLK6/DQS1R)/(DPCLK6/DQS1R) (io), P24 IO, LVDS127n (io), R17 IO, LVDS130p (io), R19 IO, LVDS135p (io), R20 IO, DQ1R2/DQ3R2 (io), R24 IO, LVDS128n, DQ1R1/DQ3R1 (io), R25 IO, LVDS128p, DQ1R0/DQ3R0 (io), T17 IO, LVDS132n (io), T18 IO, LVDS132p (io), T19 IO, LVDS135n (io), T20 IO, DQ1R6/DQ3R6 (io), T21 IO, VREFB6N0 (io), T22 IO, LVDS129p, DQ1R3/DQ3R3 (io), T23 IO, LVDS129n (io), T24 IO, LVDS131p, DQ1R4/DQ3R4 (io), T25 IO, LVDS131n, DQ1R5/DQ3R5 (io), U20 IO, LVDS136p (io), U21 IO, LVDS136n, DQ3R0/DQ3R9 (io), U22 IO, DQ3R7/DQ3R16 (io), U23 IO, LVDS134p, (DM1R/BWS#1R)/(DM3R0/BWS#3R0) (io), U24 IO, LVDS134n (io), U25 IO, LVDS133n, DQ1R8/DQ3R8 (io), U26 IO, LVDS133p, DQ1R7/DQ3R7 (io), V20 IO, PLL4_OUTn (io), V21 IO, PLL4_OUTp (io), V22 IO, VREFB6N1 (io), V23 IO, LVDS138n, DQ3R4/DQ3R13 (io), V24 IO, LVDS138p, DQ3R3/DQ3R12 (io), V25 IO, LVDS137n, DQ3R2/DQ3R11 (io), V26 IO, LVDS137p, DQ3R1/DQ3R10 (io), W21 IO, LVDS148n (io), W23 IO, LVDS140p, DQ3R5/DQ3R14 (io), W24 IO, LVDS140n, DQ3R6/DQ3R15 (io), W25 IO, LVDS139n (io), W26 IO, LVDS139p, (CDPCLK4/DQS3R)/(CDPCLK4/DQS3R) (io), Y21 IO (io), Y22 IO, LVDS148p (io), Y23 IO, LVDS143p (io), Y24 IO, LVDS143n (io), Y25 IO, LVDS141p, DQ3R8/DQ3R17 (io), Y26 IO, LVDS141n, (DM3R/BWS#3R)/(DM3R1/BWS#3R1) (io)
part G pins: AA13 IO, LVDS175p, DQ4B4/DQ5B13 (io), AA14 IO, LVDS174p (io), AA15 IO, LVDS173n, DQ4B0/DQ5B9 (io), AA16 IO, LVDS167p, DQ2B2/DQ5B2 (io), AA17 IO, LVDS162p (io), AA18 IO, LVDS162n (io), AA20 IO, DQ0B2/_ (io), AB15 IO, LVDS172p (io), AB18 IO, LVDS164p (io), AB20 IO, LVDS159p, DQ0B5/_ (io), AB21 IO, LVDS152n (io), AC14 IO, DQ4B5/DQ5B14 (io), AC15 IO, LVDS172n, DM2B/(DM5B0/BWS#5B0) (io), AC16 IO, VREFB7N1 (io), AC17 IO, LVDS168p, DQ2B4/DQ5B4 (io), AC18 IO, LVDS164n (io), AC19 IO, LVDS161n (io), AC20 IO, LVDS159n, DQ0B4/_ (io), AC21 IO, LVDS154p, (CDPCLK3/DQS0B)/(CDPCLK3/DQS0B) (io), AC22 IO, LVDS152p (io), AD15 IO, LVDS176n (io), AD16 IO, LVDS171n, DQ2B7/DQ5B7 (io), AD17 IO, LVDS168n, DQ2B3/DQ5B3 (io), AD19 IO, LVDS161p, DM0B/_ (io), AD21 IO, LVDS154n (io), AD22 IO, LVDS153n (io), AD23 IO, LVDS153p (io), AE15 IO, LVDS176p, (DPCLK4/DQS4B)/(DPCLK4/DQS4B) (io), AE16 IO, LVDS171p, _/DQ5B8 (io), AE17 IO, LVDS169n, DQ2B5/DQ5B5 (io), AE18 IO, LVDS166n (io), AE19 IO, LVDS165n (io), AE20 IO, LVDS160n, DQ0B6/_ (io), AE21 IO, LVDS158n (io), AE22 IO, LVDS155n, DQ0B0/_ (io), AE23 IO, LVDS151n (io), AF17 IO, LVDS169p, DQ2B6/DQ5B6 (io), AF18 IO, LVDS166p, DQ2B0/DQ5B0 (io), AF19 IO, LVDS165p, (DPCLK5/DQS2B)/(DPCLK5/DQS2B) (io), AF20 IO, LVDS160p, DQ0B7/_ (io), AF21 IO, LVDS158p, DQ0B3/_ (io), AF22 IO, LVDS155p, DQ0B1/_ (io), AF23 IO, LVDS151p (io), U17 IO, LVDS157p (io), U18 IO, LVDS157n (io), V17 IO, LVDS163n (io), V18 IO, LVDS156p (io), W15 IO, LVDS170p (io), W16 IO, LVDS170n (io), W17 IO, LVDS163p (io), W19 IO, LVDS156n (io), Y13 IO, LVDS175n, DQ4B3/DQ5B12 (io), Y14 IO, LVDS174n, DQ4B2/DQ5B11 (io), Y15 IO, LVDS173p, DQ4B1/DQ5B10 (io), Y16 IO, LVDS167n, DQ2B1/DQ5B1 (io), Y18 IO, VREFB7N0 (io)
part H pins: AA9 IO, DQ3B6/DQ3B15 (io), AA10 IO, LVDS191p, DQ3B5/DQ3B14 (io), AA11 IO, LVDS190p, DQ3B3/DQ3B12 (io), AA12 IO, LVDS179p, DM4B/(DM5B1/BWS#5B1) (io), AB8 IO, DQ1B1/_ (io), AB10 IO, LVDS191n, DQ3B4/DQ3B13 (io), AB12 IO, DQ5B2/DQ3B2 (io), AC5 IO, LVDS199p, DQ1B7/_ (io), AC6 IO, LVDS199n, DQ1B6/_ (io), AC7 IO, VREFB8N1 (io), AC8 IO, LVDS193p, DQ1B0/_ (io), AC9 IO, LVDS186p, (DM5B/BWS#5B)/(DM3B0/BWS#3B0) (io), AC10 IO, LVDS186n (io), AC11 IO, LVDS184n, DQ5B5/DQ3B5 (io), AC12 IO, VREFB8N0 (io), AD4 IO, LVDS198p, DQ1B5/_ (io), AD5 IO, LVDS198n, DQ1B4/_ (io), AD6 IO, LVDS196p, DQ1B3/_ (io), AD7 IO, LVDS196n (io), AD8 IO, LVDS193n, (DM3B/BWS#3B)/(DM3B1/BWS#3B1) (io), AD10 IO, LVDS184p, DQ5B6/DQ3B6 (io), AD11 IO, LVDS182p, DQ5B1/DQ3B1 (io), AD12 IO, LVDS178p, DQ4B7/DQ5B16 (io), AE4 IO, LVDS200n (DEV_OE) (io), AE5 IO, LVDS197p, (CDPCLK2/DQS1B)/(CDPCLK2/DQS1B) (io), AE6 IO, LVDS192p, DQ3B8/DQ3B17 (io), AE7 IO, LVDS189p, DQ3B1/DQ3B10 (io), AE8 IO, LVDS188p, (DPCLK2/DQS3B)/(DPCLK2/DQS3B) (io), AE9 IO, LVDS185p, DQ5B8/DQ3B8 (io), AE10 IO, LVDS183p, DQ5B4/DQ3B4 (io), AE11 IO, LVDS182n, DQ5B0/DQ3B0 (io), AE12 IO, LVDS178n, DQ4B6/DQ5B15 (io), AE13 IO, LVDS177p, (DPCLK3/DQS5B)/(DPCLK3/DQS5B) (io), AF4 IO, LVDS200p, DM1B/_ (io), AF5 IO, LVDS197n (io), AF6 IO, LVDS192n, DQ3B7/DQ3B16 (io), AF7 IO, LVDS189n, DQ3B0/DQ3B9 (io), AF8 IO, LVDS188n (io), AF9 IO, LVDS185n, DQ5B7/DQ3B7 (io), AF10 IO, LVDS183n, DQ5B3/DQ3B3 (io), AF13 IO, LVDS177n (io), U12 IO, LVDS180n (io), V9 IO, LVDS195n (io), V10 IO, LVDS195p (io), V11 IO, LVDS180p (io), V13 IO, LVDS181n (io), V14 IO, LVDS181p (io), W8 IO (io), W10 IO, LVDS194p (io), W11 IO, LVDS187p (io), W12 IO, LVDS187n (io), Y10 IO, LVDS194n, DQ1B2/_ (io), Y11 IO, LVDS190n, DQ3B2/DQ3B11 (io), Y12 IO, LVDS179n, _/DQ5B17 (io)
part I pins: L8 TMS (in), M6 TCK (in), M7 TDO (out), M8 TDI (in), N3 DATA0 (io), N4 nCE (in), N6 DCLK (io), N7 nCONFIG (in), P20 MSEL0 (in), P21 MSEL1 (in), R22 nSTATUS (io), R23 CONF_DONE (io)
part J pins: A3 VCCIO3 (power), A11 VCCIO3 (power), A16 VCCIO4 (power), A24 VCCIO4 (power), AA22 VCCIO6 (power), AB5 VCCIO1 (power), AB6 VCCIO8 (power), AB9 VCCIO8 (power), AB13 VCCIO8 (power), AB14 VCCIO7 (power), AB17 VCCIO7 (power), AB22 VCCIO7 (power), AD1 VCCIO1 (power), AD20 VCCIO7 (power), AD26 VCCIO6 (power), AF3 VCCIO8 (power), AF11 VCCIO8 (power), AF16 VCCIO7 (power), AF24 VCCIO7 (power), C1 VCCIO2 (power), C20 VCCIO4 (power), C26 VCCIO5 (power), D22 VCCIO4 (power), E6 VCCIO3 (power), E9 VCCIO3 (power), E13 VCCIO3 (power), E14 VCCIO4 (power), E17 VCCIO4 (power), F5 VCCIO2 (power), F22 VCCIO5 (power), H9 VCCIO3 (power), H18 VCCIO4 (power), J12 VCCIO3 (power), J15 VCCIO4 (power), J19 VCCIO5 (power), K10 VCCINT (power), K11 VCCINT (power), K12 VCCINT (power), K13 VCCINT (power), K14 VCCINT (power), K15 VCCINT (power), L1 VCCIO2 (power), L11 VCCINT (power), L16 VCCINT (power), L17 VCCINT (power), L18 VCCINT (power), L26 VCCIO5 (power), M9 VCCIO2 (power), M10 VCCINT (power), M11 VCCINT (power), M16 VCCINT (power), M17 VCCINT (power), M18 VCCIO5 (power), N5 VCCIO2 (power), N10 VCCINT (power), N17 VCCINT (power), N22 VCCIO5 (power), P5 VCCIO1 (power), P10 VCCINT (power), P22 VCCIO6 (power), R9 VCCIO1 (power), R10 VCCINT (power), R11 VCCINT (power), R16 VCCINT (power), R18 VCCIO6 (power), T1 VCCIO1 (power), T11 VCCINT (power), T16 VCCINT (power), T26 VCCIO6 (power), U11 VCCINT (power), U13 VCCINT (power), U14 VCCINT (power), U15 VCCINT (power), U16 VCCINT (power), V8 VCCIO1 (power), V12 VCCIO8 (power), V15 VCCIO7 (power), V16 VCCINT (power), V19 VCCIO6 (power), W9 VCCIO8 (power), W18 VCCIO7 (power)
part K pins: A2 GND (power), A12 GND (power), A15 GND (power), A25 GND (power), AB7 GND (power), AB11 GND (power), AB16 GND (power), AB19 GND (power), AC4 GND (power), AD9 GND (power), AD14 GND (power), AD18 GND (power), AE1 GND (power), AE26 GND (power), AF2 GND (power), AF12 GND (power), AF15 GND (power), AF25 GND (power), B1 GND (power), B26 GND (power), C14 GND (power), C18 GND (power), D4 GND (power), D24 GND (power), E7 GND (power), E11 GND (power), E16 GND (power), E19 GND (power), H5 GND (power), H13 GND (power), H14 GND (power), H22 GND (power), K20 GND (power), L5 GND (power), L12 GND (power), L13 GND (power), L14 GND (power), L15 GND (power), L22 GND (power), M1 GND (power), M12 GND (power), M13 GND (power), M14 GND (power), M15 GND (power), M26 GND (power), N8 GND (power), N11 GND (power), N12 GND (power), N13 GND (power), N14 GND (power), N15 GND (power), N16 GND (power), N19 GND (power), P8 GND (power), P11 GND (power), P12 GND (power), P13 GND (power), P14 GND (power), P15 GND (power), P16 GND (power), P19 GND (power), R1 GND (power), R12 GND (power), R13 GND (power), R14 GND (power), R15 GND (power), R21 GND (power), R26 GND (power), T5 GND (power), T12 GND (power), T13 GND (power), T14 GND (power), T15 GND (power), U8 GND (power), U19 GND (power), W5 GND (power), W13 GND (power), W14 GND (power), W22 GND (power), Y9 GND (power), Y17 GND (power)
part L pins: AA8 VCCA_PLL1 (power), AA19 VCCA_PLL4 (power), AA21 GND_PLL4 (power), E4 GND_PLL3 (power), E21 GND_PLL2 (power), F8 GNDA_PLL3 (power), F19 GNDA_PLL2 (power), G7 GND_PLL3 (power), G8 VCCA_PLL3 (power), G19 VCCA_PLL2 (power), G20 GND_PLL2 (power), H7 VCCD_PLL3 (power), H20 VCCD_PLL2 (power), W7 GND_PLL1 (power), W20 GND_PLL4 (power), Y6 GND_PLL1 (power), Y7 VCCD_PLL1 (power), Y8 GNDA_PLL1 (power), Y19 GNDA_PLL4 (power), Y20 VCCD_PLL4 (power)
part M pins: A13 CLK9, LVDSCLK4p INPUT (in), AC13 CLK15, LVDSCLK7p INPUT (in), AD13 CLK14, LVDSCLK7n INPUT (in), AE14 CLK12, LVDSCLK6n INPUT (in), AF14 CLK13, LVDSCLK6p INPUT (in), B13 CLK8, LVDSCLK4n INPUT (in), C13 CLK10, LVDSCLK5n INPUT (in), D13 CLK11, LVDSCLK5p INPUT (in), N1 CLK1, LVDSCLK0n INPUT (in), N2 CLK0, LVDSCLK0p INPUT (in), N25 CLK4, LVDSCLK2p INPUT (in), N26 CLK5, LVDSCLK2n INPUT (in), P1 CLK3, LVDSCLK1n INPUT (in), P2 CLK2, LVDSCLK1p INPUT (in), P25 CLK6, LVDSCLK3p INPUT (in), P26 CLK7, LVDSCLK3n INPUT (in)
part N pins: AC24 NC, N21 NC, Y2 NC
part A text: BANK 1
part B text: BANK 2
part C text: BANK 3
part D text: BANK 4
part E text: BANK 5
part F text: BANK 6
part G text: BANK 7
part H text: BANK 8

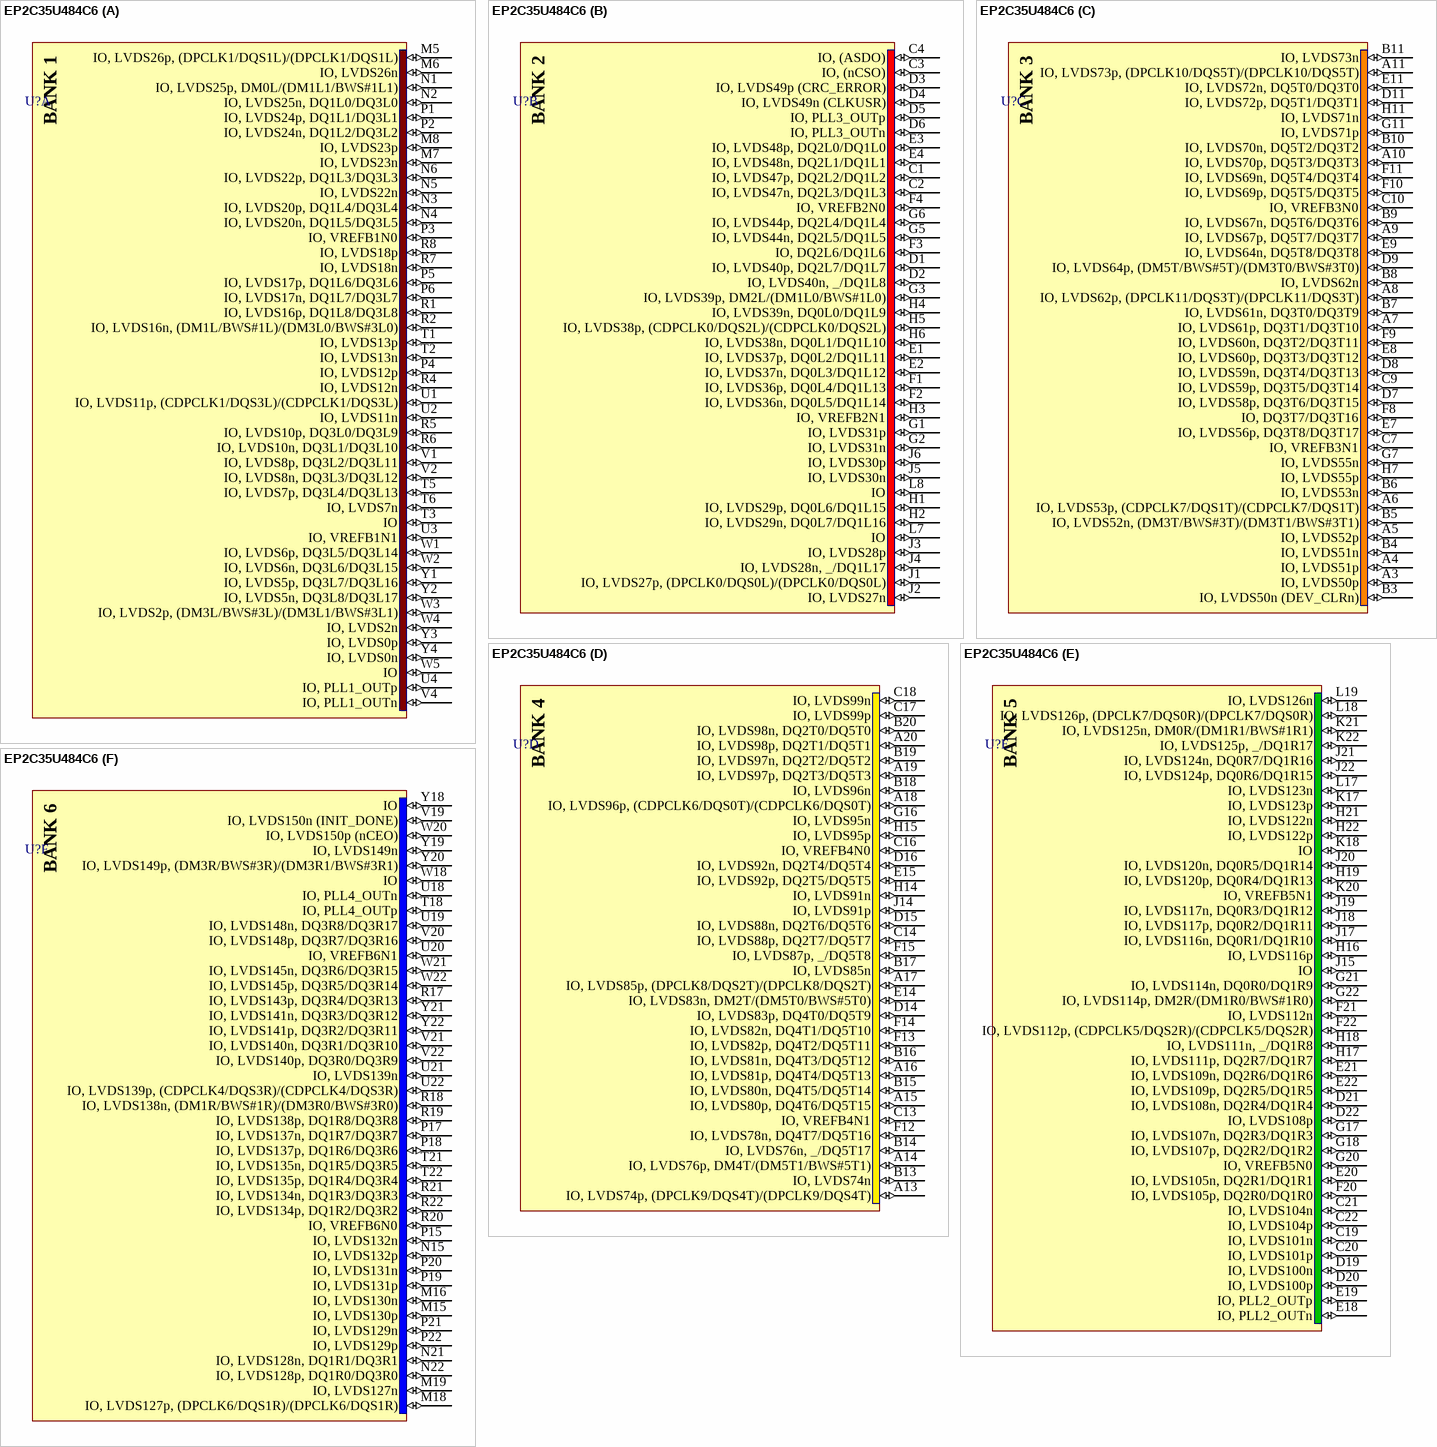
[diagram p159: symbol EP2C35U484C6]

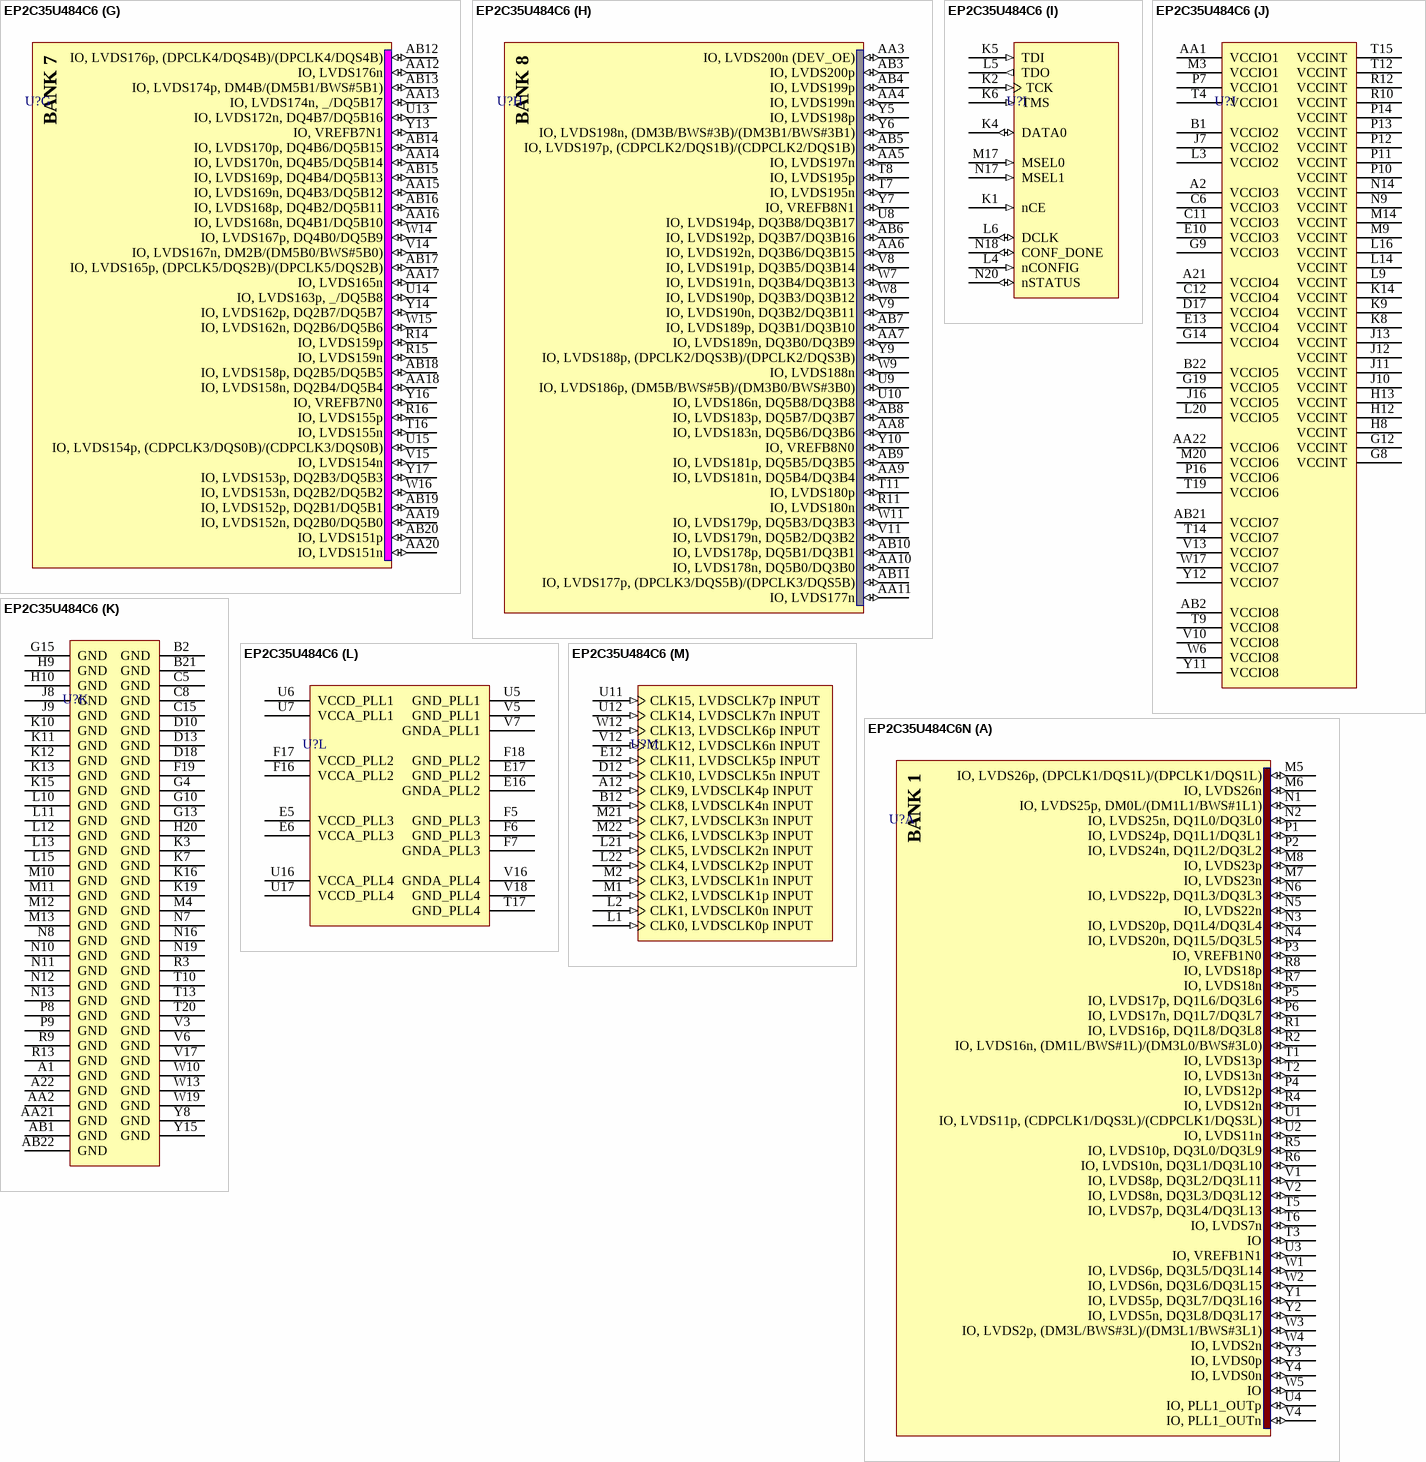
[diagram p160: symbols EP2C35U484C6 to EP2C35U484C6N]